# Altium footprint library PCB-Other-pogopin连接器.PCBLIB: 4 footprints
Each footprint in its own frame and in the unit in brackets; x right, y up, seen from the top. Pads: shape width x height; smd on the part's side, far side on the other; paste and mask are expansions set on the pad; w line width, h text height; cw(c..) or ccw(c..) is an arc to the next point about the centre after c.
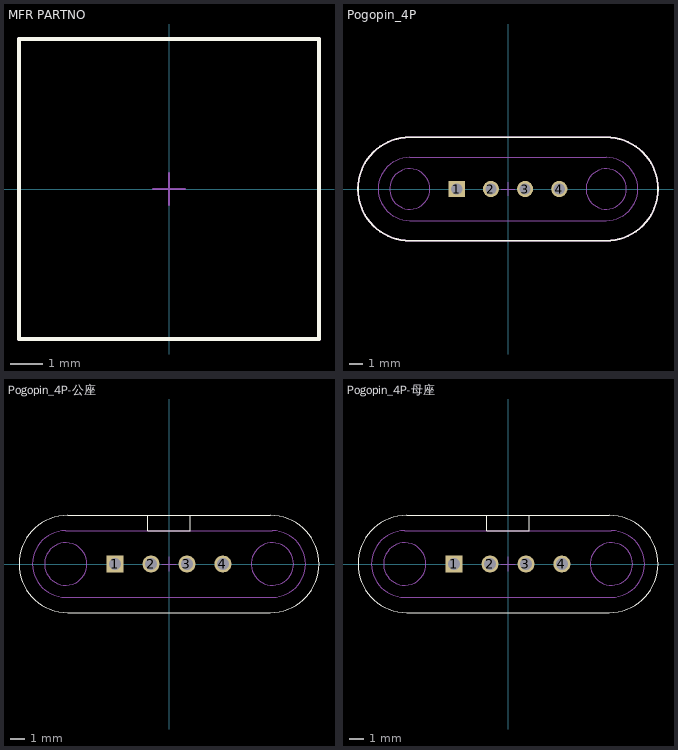
[diagram p0: the footprints below, top view; thin cyan lines are the x and y axes]

## MFR PARTNO [mm] "记得设置高度"
Top Overlay:
  lines w0.127: -4.7,-4.7 4.7,-4.7 4.7,4.7 -4.7,4.7 -4.7,-4.7
Top 元件外形:
  lines w0.127: -4.7,-4.7 -4.7,4.7 4.7,4.7 4.7,-4.7 -4.7,-4.7
Top 中心点:
  lines w0.051: -0.5,0 0.5,0 ; 0,-0.5 0,0.5

## Pogopin_4P [mm]
height 0.051
pads (4):
  rect 1.2x1.2 hole 0.825: 1(-3.81,0)
  round 1.2 hole 0.825: 2(-1.27,0) 3(1.27,0) 4(3.81,0)
Top Overlay:
  lines w0.127: -7.3,-3.85 cw(c-7.3,0) -7.3,3.85 7.3,3.85 cw(c7.3,0) 7.3,-3.85 -7.3,-3.85
Top 元件外形:
  circle w0.076: c-3.81,0 r0.413
  circle w0.076: c-7.3,0 r1.5
  circle w0.076: c3.81,0 r0.413
  circle w0.076: c1.27,0 r0.413
  circle w0.076: c-1.27,0 r0.413
  circle w0.076: c7.3,0 r1.5
  lines w0.076: -7.3,-2.35 cw(c-7.3,0) -7.3,2.35 7.3,2.35 cw(c7.3,0) 7.3,-2.35 -7.3,-2.35
  lines w0.127: -7.3,-3.85 cw(c-7.3,0) -7.3,3.85 7.3,3.85 cw(c7.3,0) 7.3,-3.85 -7.3,-3.85
  text "S" at 6.792,-0.762 h1.52
  text "N" at -7.808,-0.762 h1.52
Top 中心点:
  lines w0.051: -0.5,0 0.5,0 ; 0,-0.5 0,0.5
3D body "磁吸4P v1.step": height 2, standoff -0.7, extent -11.15,-3.85 11.15,3.85

## Pogopin_4P-公座 [mm]
height 0.051
pads (4):
  rect 1.2x1.2 hole 0.825: 1(-3.81,0)
  round 1.2 hole 0.825: 2(-1.27,0) 3(1.27,0) 4(3.81,0)
Top Overlay:
  lines w0.076: -1.5,3.43 -1.5,2.35 1.5,2.35 1.5,3.43 ; -7.17,-3.43 cw(c-7.17,0) -7.17,3.43 7.17,3.43 cw(c7.17,0) 7.17,-3.43 -7.17,-3.43
Top 元件外形:
  circle w0.076: c-3.81,0 r0.413
  circle w0.076: c-7.3,0 r1.5
  circle w0.076: c3.81,0 r0.413
  circle w0.076: c1.27,0 r0.413
  circle w0.076: c-1.27,0 r0.413
  circle w0.076: c7.3,0 r1.5
  circle w0.076: c3.81,0 r0.35
  circle w0.076: c-1.27,0 r0.35
  circle w0.076: c1.27,0 r0.35
  circle w0.076: c-3.81,0 r0.35
  lines w0.076: -7.3,-2.35 cw(c-7.3,0) -7.3,2.35 7.3,2.35 cw(c7.3,0) 7.3,-2.35 -7.3,-2.35
  text "S" at -7.808,-0.762 h1.52
  text "N" at 6.792,-0.762 h1.52
Top 中心点:
  lines w0.051: -0.5,0 0.5,0 ; 0,-0.5 0,0.5
3D body "4P-2.54PH v1.step": height 3.2, standoff -2, extent -10.588,-3.43 10.588,3.432

## Pogopin_4P-母座 [mm]
height 0.051
pads (4):
  rect 1.2x1.2 hole 0.825: 1(-3.81,0)
  round 1.2 hole 0.825: 2(-1.27,0) 3(1.27,0) 4(3.81,0)
Top Overlay:
  lines w0.076: -1.5,3.43 -1.5,2.35 1.5,2.35 1.5,3.43 ; -7.17,-3.43 cw(c-7.17,0) -7.17,3.43 7.17,3.43 cw(c7.17,0) 7.17,-3.43 -7.17,-3.43
Top 元件外形:
  circle w0.076: c-3.81,0 r0.413
  circle w0.076: c-7.3,0 r1.5
  circle w0.076: c3.81,0 r0.413
  circle w0.076: c1.27,0 r0.413
  circle w0.076: c-1.27,0 r0.413
  circle w0.076: c7.3,0 r1.5
  circle w0.076: c3.81,0 r0.35
  circle w0.076: c-1.27,0 r0.35
  circle w0.076: c1.27,0 r0.35
  circle w0.076: c-3.81,0 r0.35
  lines w0.076: -7.3,-2.35 cw(c-7.3,0) -7.3,2.35 7.3,2.35 cw(c7.3,0) 7.3,-2.35 -7.3,-2.35
  text "S" at 6.792,-0.762 h1.52
  text "N" at -7.808,-0.762 h1.52
Top 中心点:
  lines w0.051: -0.5,0 0.5,0 ; 0,-0.5 0,0.5
3D body "4P-2.54PH v1.step": height 3.2, standoff -2, extent -10.588,-3.43 10.588,3.432